# Altium footprint library CAPC0603X56N.PcbLib: 1 footprints
Each footprint in its own frame and in the unit in brackets; x right, y up, seen from the top. Pads: shape width x height; smd on the part's side, far side on the other; paste and mask are expansions set on the pad; w line width, h text height; cw(c..) or ccw(c..) is an arc to the next point about the centre after c.
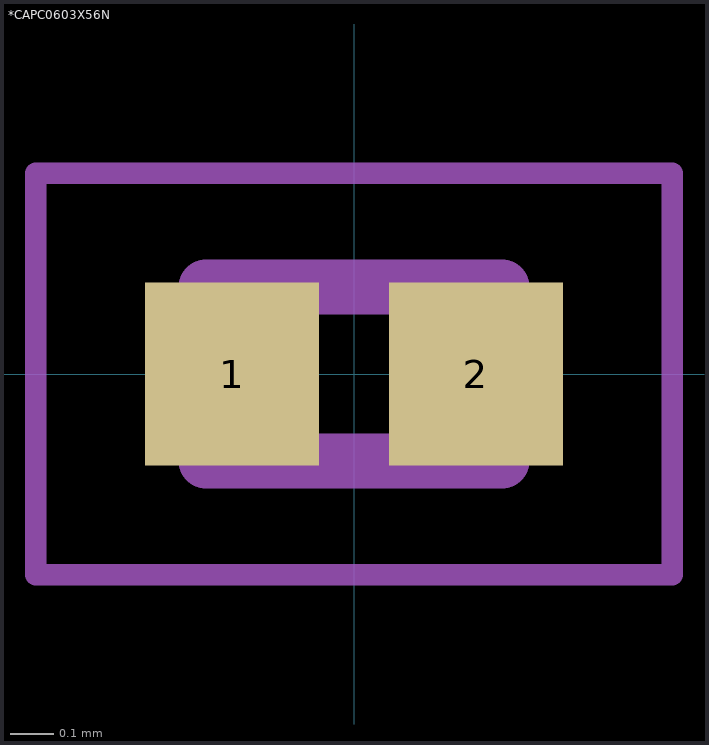
[diagram p0: the footprint, top view; thin cyan lines are the x and y axes]

## *CAPC0603X56N [mm]
pads (2):
  rect 0.4x0.42 smd: 1(-0.28,0) 2(0.28,0)
Mechanical 13:
  lines w0.127: -0.34,-0.2 -0.34,0.2 ; -0.34,-0.2 0.34,-0.2 ; -0.34,-0.2 -0.34,0.2 ; -0.34,-0.2 0.34,-0.2 ; -0.34,0.2 0.34,0.2 ; -0.34,0.2 0.34,0.2 ; 0.34,-0.2 0.34,0.2 ; 0.34,-0.2 0.34,0.2
Mechanical 15:
  lines w0.05: -0.731,-0.461 -0.731,0.461 0.731,0.461 0.731,-0.461 -0.731,-0.461